# Altium integrated library TI Data Converters Digital to Analog Converter.IntLib: 1533 symbols (part 80 of 99)
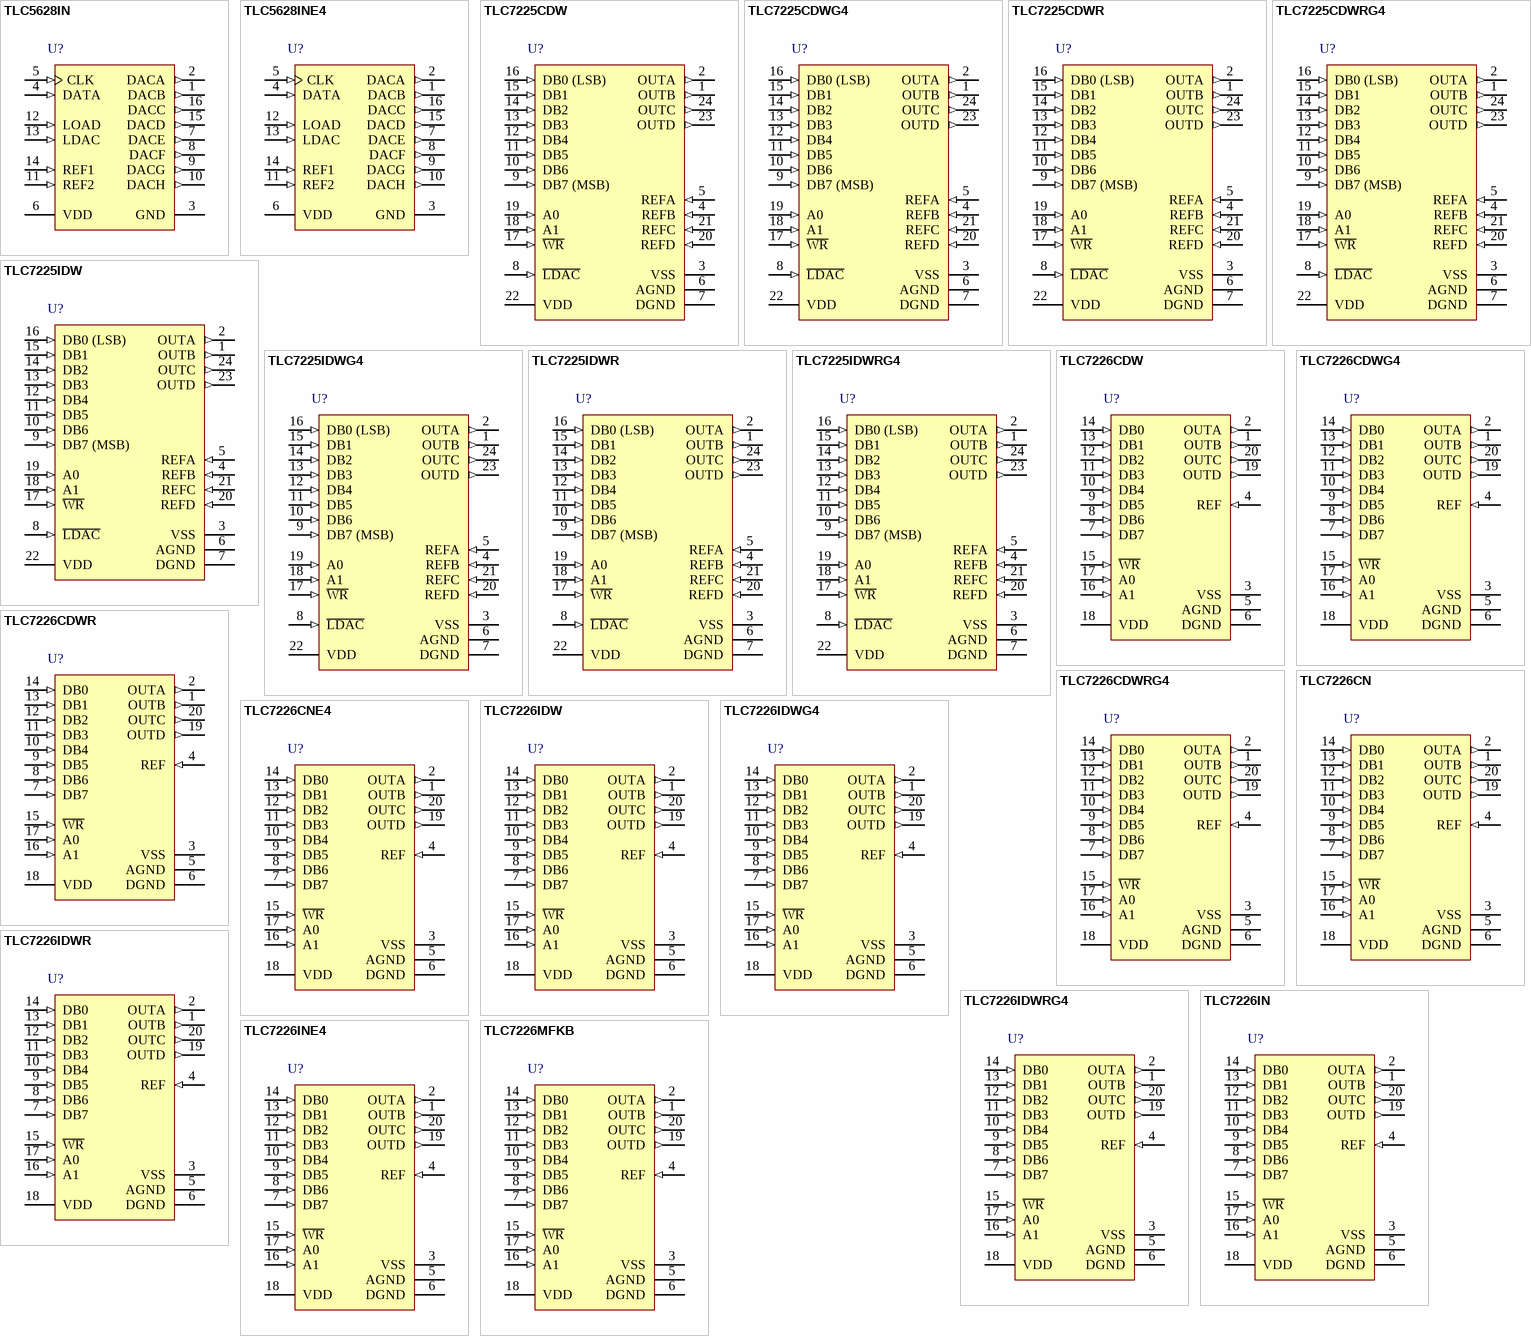
[diagram p152: symbols TLC5628IN to TLC7226MFKB]

## TLC7225IDW
designator U?
8-Bit, 5 us Quad DAC, Parallel Input, Simultaneous Update, Binary Input Coding, -25 to 85 degC, 24-pin SOIC (DW24), Green (RoHS & no Sb/Br); Manufacturer: Texas Instruments; PartNumber: TLC7225IDW; DAC Channels: 4; DNL(Max)(+/-LSB): 1; Power Consumption(Typ)(mW): 75; Resolution(Bits): 8; Settling Time(us): 5; SubFamily: Precision DAC (=<10MSPS); DatasheetVersion: SLAS109B; PackageVersion: 4040000-5/G, 01/2011; PackageReference: DW24; PackageDescription: 24-Pin Plastic Small Outline, Body 15.4 x 7.5 mm, Pitch 1.27 mm; Supplier 1: Digi-Key; Supplier Part Number 1: 296-3016-5-ND; Supplier 2: Mouser; Supplier Part Number 2: 595-TLC7225IDW; Eco-Plan: Green (RoHS & no Sb/Br); INL(Max)(+/-LSB): 1; Interface: Parallel; Mounting Technology: Surface Mount; Code_JEDEC: MS-013; ComponentLink1Description: Manufacturer URL; ComponentLink1URL: http://www.ti.com/; ComponentLink2Description: Datasheet; ComponentLink2URL: http://www.ti.com/general/docs/lit/getliterature.tsp?genericPartNumber=TLC7225&fileType=pdf; ComponentLink3Description: Package Specification; ComponentLink3URL: http://www.ti.com/litv/pdf/mpds174a
footprint TI-DW24_N (SOIC, 24-Leads, Body 15.4x7.5mm, Pitch 1.27mm, IPC Medium Density)
footprint TI-DW24_L (SOIC, 24-Leads, Body 15.4x7.5mm, Pitch 1.27mm, IPC High Density)
footprint TI-DW24_M (SOIC, 24-Leads, Body 15.4x7.5mm, Pitch 1.27mm, IPC Low Density)
pins: 1 OUTB (out) "DACB output", 2 OUTA (out) "DACA output", 3 VSS (power) "Negative supply voltage", 4 REFB (in) "Voltage reference input to DACB", 5 REFA (in) "Voltage reference input to DACA", 6 AGND (power) "Analog ground", 7 DGND (power) "Digital ground", 8 ~{LDAC} (in) "Load DAC. A high level simultaneously loads all four DAC registers. DAC registers are transparent when L\D\A\C\ is low", 9 DB7 (MSB) (in) "Digital DAC data input", 10 DB6 (in) "Digital DAC data input", 11 DB5 (in) "Digital DAC data input", 12 DB4 (in) "Digital DAC data input", 13 DB3 (in) "Digital DAC data input", 14 DB2 (in) "Digital DAC data input", 15 DB1 (in) "Digital DAC data input", 16 DB0 (LSB) (in) "Digital DAC data input", 17 ~{WR} (in) "Write input selects DAC transparency or latch mode", 18 A1 (in) "DAC select inputs", 19 A0 (in) "DAC select inputs", 20 REFD (in) "Voltage reference input to DACD", 21 REFC (in) "Voltage reference input to DACC", 22 VDD (power) "Positive supply voltage", 23 OUTD (out) "DACD output", 24 OUTC (out) "DACC output"

## TLC7225IDWG4
designator U?
8-Bit, 5 us Quad DAC, Parallel Input, Simultaneous Update, Binary Input Coding, -25 to 85 degC, 24-pin SOIC (DW24), Green (RoHS & no Sb/Br); Manufacturer: Texas Instruments; PartNumber: TLC7225IDWG4; DAC Channels: 4; DNL(Max)(+/-LSB): 1; Power Consumption(Typ)(mW): 75; Resolution(Bits): 8; Settling Time(us): 5; SubFamily: Precision DAC (=<10MSPS); DatasheetVersion: SLAS109B; PackageVersion: 4040000-5/G, 01/2011; PackageReference: DW24; PackageDescription: 24-Pin Plastic Small Outline, Body 15.4 x 7.5 mm, Pitch 1.27 mm; Supplier 1: Digi-Key; Supplier Part Number 1: TLC7225IDWG4-ND; Supplier 2: Mouser; Supplier Part Number 2: 595-TLC7225IDWG4; Eco-Plan: Green (RoHS & no Sb/Br); INL(Max)(+/-LSB): 1; Interface: Parallel; Mounting Technology: Surface Mount; Code_JEDEC: MS-013; ComponentLink1Description: Manufacturer URL; ComponentLink1URL: http://www.ti.com/; ComponentLink2Description: Datasheet; ComponentLink2URL: http://www.ti.com/general/docs/lit/getliterature.tsp?genericPartNumber=TLC7225&fileType=pdf; ComponentLink3Description: Package Specification; ComponentLink3URL: http://www.ti.com/litv/pdf/mpds174a
footprint TI-DW24_N (SOIC, 24-Leads, Body 15.4x7.5mm, Pitch 1.27mm, IPC Medium Density)
footprint TI-DW24_L (SOIC, 24-Leads, Body 15.4x7.5mm, Pitch 1.27mm, IPC High Density)
footprint TI-DW24_M (SOIC, 24-Leads, Body 15.4x7.5mm, Pitch 1.27mm, IPC Low Density)
pins: 1 OUTB (out) "DACB output", 2 OUTA (out) "DACA output", 3 VSS (power) "Negative supply voltage", 4 REFB (in) "Voltage reference input to DACB", 5 REFA (in) "Voltage reference input to DACA", 6 AGND (power) "Analog ground", 7 DGND (power) "Digital ground", 8 ~{LDAC} (in) "Load DAC. A high level simultaneously loads all four DAC registers. DAC registers are transparent when L\D\A\C\ is low", 9 DB7 (MSB) (in) "Digital DAC data input", 10 DB6 (in) "Digital DAC data input", 11 DB5 (in) "Digital DAC data input", 12 DB4 (in) "Digital DAC data input", 13 DB3 (in) "Digital DAC data input", 14 DB2 (in) "Digital DAC data input", 15 DB1 (in) "Digital DAC data input", 16 DB0 (LSB) (in) "Digital DAC data input", 17 ~{WR} (in) "Write input selects DAC transparency or latch mode", 18 A1 (in) "DAC select inputs", 19 A0 (in) "DAC select inputs", 20 REFD (in) "Voltage reference input to DACD", 21 REFC (in) "Voltage reference input to DACC", 22 VDD (power) "Positive supply voltage", 23 OUTD (out) "DACD output", 24 OUTC (out) "DACC output"

## TLC7225IDWR
designator U?
8-Bit, 5 us Quad DAC, Parallel Input, Simultaneous Update, Binary Input Coding, -25 to 85 degC, 24-pin SOIC (DW24), Green (RoHS & no Sb/Br); Manufacturer: Texas Instruments; PartNumber: TLC7225IDWR; DAC Channels: 4; DNL(Max)(+/-LSB): 1; Power Consumption(Typ)(mW): 75; Resolution(Bits): 8; Settling Time(us): 5; SubFamily: Precision DAC (=<10MSPS); DatasheetVersion: SLAS109B; PackageVersion: 4040000-5/G, 01/2011; PackageReference: DW24; PackageDescription: 24-Pin Plastic Small Outline, Body 15.4 x 7.5 mm, Pitch 1.27 mm; Supplier 1: Digi-Key; Supplier Part Number 1: TLC7225IDWR-ND; Supplier 2: Mouser; Supplier Part Number 2: 595-TLC7225IDWR; Eco-Plan: Green (RoHS & no Sb/Br); INL(Max)(+/-LSB): 1; Interface: Parallel; Mounting Technology: Surface Mount; Code_JEDEC: MS-013; ComponentLink1Description: Manufacturer URL; ComponentLink1URL: http://www.ti.com/; ComponentLink2Description: Datasheet; ComponentLink2URL: http://www.ti.com/general/docs/lit/getliterature.tsp?genericPartNumber=TLC7225&fileType=pdf; ComponentLink3Description: Package Specification; ComponentLink3URL: http://www.ti.com/litv/pdf/mpds174a
footprint TI-DW24_N (SOIC, 24-Leads, Body 15.4x7.5mm, Pitch 1.27mm, IPC Medium Density)
footprint TI-DW24_L (SOIC, 24-Leads, Body 15.4x7.5mm, Pitch 1.27mm, IPC High Density)
footprint TI-DW24_M (SOIC, 24-Leads, Body 15.4x7.5mm, Pitch 1.27mm, IPC Low Density)
pins: 1 OUTB (out) "DACB output", 2 OUTA (out) "DACA output", 3 VSS (power) "Negative supply voltage", 4 REFB (in) "Voltage reference input to DACB", 5 REFA (in) "Voltage reference input to DACA", 6 AGND (power) "Analog ground", 7 DGND (power) "Digital ground", 8 ~{LDAC} (in) "Load DAC. A high level simultaneously loads all four DAC registers. DAC registers are transparent when L\D\A\C\ is low", 9 DB7 (MSB) (in) "Digital DAC data input", 10 DB6 (in) "Digital DAC data input", 11 DB5 (in) "Digital DAC data input", 12 DB4 (in) "Digital DAC data input", 13 DB3 (in) "Digital DAC data input", 14 DB2 (in) "Digital DAC data input", 15 DB1 (in) "Digital DAC data input", 16 DB0 (LSB) (in) "Digital DAC data input", 17 ~{WR} (in) "Write input selects DAC transparency or latch mode", 18 A1 (in) "DAC select inputs", 19 A0 (in) "DAC select inputs", 20 REFD (in) "Voltage reference input to DACD", 21 REFC (in) "Voltage reference input to DACC", 22 VDD (power) "Positive supply voltage", 23 OUTD (out) "DACD output", 24 OUTC (out) "DACC output"

## TLC7225IDWRG4
designator U?
8-Bit, 5 us Quad DAC, Parallel Input, Simultaneous Update, Binary Input Coding, -25 to 85 degC, 24-pin SOIC (DW24), Green (RoHS & no Sb/Br); Manufacturer: Texas Instruments; PartNumber: TLC7225IDWRG4; DAC Channels: 4; DNL(Max)(+/-LSB): 1; Power Consumption(Typ)(mW): 75; Resolution(Bits): 8; Settling Time(us): 5; SubFamily: Precision DAC (=<10MSPS); DatasheetVersion: SLAS109B; PackageVersion: 4040000-5/G, 01/2011; PackageReference: DW24; PackageDescription: 24-Pin Plastic Small Outline, Body 15.4 x 7.5 mm, Pitch 1.27 mm; Supplier 1: Digi-Key; Supplier Part Number 1: TLC7225IDWRG4-ND; Supplier 2: Mouser; Supplier Part Number 2: 595-TLC7225IDWRG4; Eco-Plan: Green (RoHS & no Sb/Br); INL(Max)(+/-LSB): 1; Interface: Parallel; Mounting Technology: Surface Mount; Code_JEDEC: MS-013; ComponentLink1Description: Manufacturer URL; ComponentLink1URL: http://www.ti.com/; ComponentLink2Description: Datasheet; ComponentLink2URL: http://www.ti.com/general/docs/lit/getliterature.tsp?genericPartNumber=TLC7225&fileType=pdf; ComponentLink3Description: Package Specification; ComponentLink3URL: http://www.ti.com/litv/pdf/mpds174a
footprint TI-DW24_N (SOIC, 24-Leads, Body 15.4x7.5mm, Pitch 1.27mm, IPC Medium Density)
footprint TI-DW24_L (SOIC, 24-Leads, Body 15.4x7.5mm, Pitch 1.27mm, IPC High Density)
footprint TI-DW24_M (SOIC, 24-Leads, Body 15.4x7.5mm, Pitch 1.27mm, IPC Low Density)
pins: 1 OUTB (out) "DACB output", 2 OUTA (out) "DACA output", 3 VSS (power) "Negative supply voltage", 4 REFB (in) "Voltage reference input to DACB", 5 REFA (in) "Voltage reference input to DACA", 6 AGND (power) "Analog ground", 7 DGND (power) "Digital ground", 8 ~{LDAC} (in) "Load DAC. A high level simultaneously loads all four DAC registers. DAC registers are transparent when L\D\A\C\ is low", 9 DB7 (MSB) (in) "Digital DAC data input", 10 DB6 (in) "Digital DAC data input", 11 DB5 (in) "Digital DAC data input", 12 DB4 (in) "Digital DAC data input", 13 DB3 (in) "Digital DAC data input", 14 DB2 (in) "Digital DAC data input", 15 DB1 (in) "Digital DAC data input", 16 DB0 (LSB) (in) "Digital DAC data input", 17 ~{WR} (in) "Write input selects DAC transparency or latch mode", 18 A1 (in) "DAC select inputs", 19 A0 (in) "DAC select inputs", 20 REFD (in) "Voltage reference input to DACD", 21 REFC (in) "Voltage reference input to DACC", 22 VDD (power) "Positive supply voltage", 23 OUTD (out) "DACD output", 24 OUTC (out) "DACC output"

## TLC7226CDW
designator U?
8-Bit, 5 us Quad DAC, Parallel Input, Single / Dual Supply, 0 to 70 degC, 20-pin SOIC (DW20), Green (RoHS & no Sb/Br); Manufacturer: Texas Instruments; PartNumber: TLC7226CDW; DAC Channels: 4; DNL(Max)(+/-LSB): 1; Power Consumption(Typ)(mW): 90; Resolution(Bits): 8; Settling Time(us): 5; SubFamily: Precision DAC (=<10MSPS); DatasheetVersion: SLAS060F; PackageVersion: 4040000-4/G, 01/2011; PackageReference: DW20; PackageDescription: 20-Pin Plastic Small Outline, Body 12.8 x 7.5 mm, Pitch 1.27 mm; Supplier 1: Digi-Key; Supplier Part Number 1: 296-3017-5-ND; Supplier 2: Farnell; Supplier Part Number 2: 9854061; Supplier 3: Newark; Supplier Part Number 3: 35K1223; Supplier 4: Mouser; Supplier Part Number 4: 595-TLC7226CDW; Eco-Plan: Green (RoHS & no Sb/Br); INL(Max)(+/-LSB): 1; Interface: Parallel; Mounting Technology: Surface Mount; Code_JEDEC: MO-013; ComponentLink1Description: Manufacturer URL; ComponentLink1URL: http://www.ti.com/; ComponentLink2Description: Datasheet; ComponentLink2URL: http://www.ti.com/general/docs/lit/getliterature.tsp?genericPartNumber=TLC7226&fileType=pdf; ComponentLink3Description: Package Specification; ComponentLink3URL: http://www.ti.com/lit/ml/mpds173a/mpds173a.pdf
footprint TI-DW20_N (SOIC, 20-Leads, Body 12.8x7.5mm, Pitch 1.27mm, IPC Medium Density)
footprint TI-DW20_L (SOIC, 20-Leads, Body 12.8x7.5mm, Pitch 1.27mm, IPC High Density)
footprint TI-DW20_M (SOIC, 20-Leads, Body 12.8x7.5mm, Pitch 1.27mm, IPC Low Density)
pins: 1 OUTB (out) "DACB output. OUTB is the analog output of DACB.", 2 OUTA (out) "DACA output. OUTA is the analog output of DACA.", 3 VSS (power) "Negative supply voltage input terminal", 4 REF (in) "Voltage reference input. The voltage level on REF determines the full scale analog output.", 5 AGND (power) "Analog ground. AGND is the reference and return terminal for the analog signals and supply.", 6 DGND (power) "Digital ground. DGND is the reference and return terminal for the digital signals and supply.", 7 DB7 (in) "Digital DAC data inputs. DB0-DB7 are the input digital data used for conversion.", 8 DB6 (in) "Digital DAC data inputs. DB0-DB7 are the input digital data used for conversion.", 9 DB5 (in) "Digital DAC data inputs. DB0-DB7 are the input digital data used for conversion.", 10 DB4 (in) "Digital DAC data inputs. DB0-DB7 are the input digital data used for conversion.", 11 DB3 (in) "Digital DAC data inputs. DB0-DB7 are the input digital data used for conversion.", 12 DB2 (in) "Digital DAC data inputs. DB0-DB7 are the input digital data used for conversion.", 13 DB1 (in) "Digital DAC data inputs. DB0-DB7 are the input digital data used for conversion.", 14 DB0 (in) "Digital DAC data inputs. DB0-DB7 are the input digital data used for conversion.", 15 ~{WR} (in) "Write input. W\R\ selects DAC transparency or latch mode. The selected input latch is transparent when W\R\ is low.", 16 A1 (in) "DAC select inputs. The combination of high or low levels select either DACA, DACB, DACC, or DACD.", 17 A0 (in) "DAC select inputs. The combination of high or low levels select either DACA, DACB, DACC, or DACD.", 18 VDD (power) "Positive supply voltage input terminal", 19 OUTD (out) "DACD output. OUTD is the analog output of DACD.", 20 OUTC (out) "DACC output. OUTC is the analog output of DACC."

## TLC7226CDWG4
designator U?
8-Bit, 5 us Quad DAC, Parallel Input, Single / Dual Supply, 0 to 70 degC, 20-pin SOIC (DW20), Green (RoHS & no Sb/Br); Manufacturer: Texas Instruments; PartNumber: TLC7226CDWG4; DAC Channels: 4; DNL(Max)(+/-LSB): 1; Power Consumption(Typ)(mW): 90; Resolution(Bits): 8; Settling Time(us): 5; SubFamily: Precision DAC (=<10MSPS); DatasheetVersion: SLAS060F; PackageVersion: 4040000-4/G, 01/2011; PackageReference: DW20; PackageDescription: 20-Pin Plastic Small Outline, Body 12.8 x 7.5 mm, Pitch 1.27 mm; Supplier 1: Digi-Key; Supplier Part Number 1: TLC7226CDWG4-ND; Supplier 2: Mouser; Supplier Part Number 2: 595-TLC7226CDWG4; Eco-Plan: Green (RoHS & no Sb/Br); INL(Max)(+/-LSB): 1; Interface: Parallel; Mounting Technology: Surface Mount; Code_JEDEC: MO-013; ComponentLink1Description: Manufacturer URL; ComponentLink1URL: http://www.ti.com/; ComponentLink2Description: Datasheet; ComponentLink2URL: http://www.ti.com/general/docs/lit/getliterature.tsp?genericPartNumber=TLC7226&fileType=pdf; ComponentLink3Description: Package Specification; ComponentLink3URL: http://www.ti.com/lit/ml/mpds173a/mpds173a.pdf
footprint TI-DW20_N (SOIC, 20-Leads, Body 12.8x7.5mm, Pitch 1.27mm, IPC Medium Density)
footprint TI-DW20_L (SOIC, 20-Leads, Body 12.8x7.5mm, Pitch 1.27mm, IPC High Density)
footprint TI-DW20_M (SOIC, 20-Leads, Body 12.8x7.5mm, Pitch 1.27mm, IPC Low Density)
pins: 1 OUTB (out) "DACB output. OUTB is the analog output of DACB.", 2 OUTA (out) "DACA output. OUTA is the analog output of DACA.", 3 VSS (power) "Negative supply voltage input terminal", 4 REF (in) "Voltage reference input. The voltage level on REF determines the full scale analog output.", 5 AGND (power) "Analog ground. AGND is the reference and return terminal for the analog signals and supply.", 6 DGND (power) "Digital ground. DGND is the reference and return terminal for the digital signals and supply.", 7 DB7 (in) "Digital DAC data inputs. DB0-DB7 are the input digital data used for conversion.", 8 DB6 (in) "Digital DAC data inputs. DB0-DB7 are the input digital data used for conversion.", 9 DB5 (in) "Digital DAC data inputs. DB0-DB7 are the input digital data used for conversion.", 10 DB4 (in) "Digital DAC data inputs. DB0-DB7 are the input digital data used for conversion.", 11 DB3 (in) "Digital DAC data inputs. DB0-DB7 are the input digital data used for conversion.", 12 DB2 (in) "Digital DAC data inputs. DB0-DB7 are the input digital data used for conversion.", 13 DB1 (in) "Digital DAC data inputs. DB0-DB7 are the input digital data used for conversion.", 14 DB0 (in) "Digital DAC data inputs. DB0-DB7 are the input digital data used for conversion.", 15 ~{WR} (in) "Write input. W\R\ selects DAC transparency or latch mode. The selected input latch is transparent when W\R\ is low.", 16 A1 (in) "DAC select inputs. The combination of high or low levels select either DACA, DACB, DACC, or DACD.", 17 A0 (in) "DAC select inputs. The combination of high or low levels select either DACA, DACB, DACC, or DACD.", 18 VDD (power) "Positive supply voltage input terminal", 19 OUTD (out) "DACD output. OUTD is the analog output of DACD.", 20 OUTC (out) "DACC output. OUTC is the analog output of DACC."

## TLC7226CDWR
designator U?
8-Bit, 5 us Quad DAC, Parallel Input, Single / Dual Supply, 0 to 70 degC, 20-pin SOIC (DW20), Green (RoHS & no Sb/Br); Manufacturer: Texas Instruments; PartNumber: TLC7226CDWR; DAC Channels: 4; DNL(Max)(+/-LSB): 1; Power Consumption(Typ)(mW): 90; Resolution(Bits): 8; Settling Time(us): 5; SubFamily: Precision DAC (=<10MSPS); DatasheetVersion: SLAS060F; PackageVersion: 4040000-4/G, 01/2011; PackageReference: DW20; PackageDescription: 20-Pin Plastic Small Outline, Body 12.8 x 7.5 mm, Pitch 1.27 mm; Supplier 1: Digi-Key; Supplier Part Number 1: 296-26762-2-ND; Supplier 2: Digi-Key; Supplier Part Number 2: 296-26762-1-ND; Supplier 3: Digi-Key; Supplier Part Number 3: 296-26762-6-ND; Supplier 4: Newark; Supplier Part Number 4: 76C7489; Supplier 5: Mouser; Supplier Part Number 5: 595-TLC7226CDWR; Eco-Plan: Green (RoHS & no Sb/Br); INL(Max)(+/-LSB): 1; Interface: Parallel; Mounting Technology: Surface Mount; Code_JEDEC: MO-013; ComponentLink1Description: Manufacturer URL; ComponentLink1URL: http://www.ti.com/; ComponentLink2Description: Datasheet; ComponentLink2URL: http://www.ti.com/general/docs/lit/getliterature.tsp?genericPartNumber=TLC7226&fileType=pdf; ComponentLink3Description: Package Specification; ComponentLink3URL: http://www.ti.com/lit/ml/mpds173a/mpds173a.pdf
footprint TI-DW20_N (SOIC, 20-Leads, Body 12.8x7.5mm, Pitch 1.27mm, IPC Medium Density)
footprint TI-DW20_L (SOIC, 20-Leads, Body 12.8x7.5mm, Pitch 1.27mm, IPC High Density)
footprint TI-DW20_M (SOIC, 20-Leads, Body 12.8x7.5mm, Pitch 1.27mm, IPC Low Density)
pins: 1 OUTB (out) "DACB output. OUTB is the analog output of DACB.", 2 OUTA (out) "DACA output. OUTA is the analog output of DACA.", 3 VSS (power) "Negative supply voltage input terminal", 4 REF (in) "Voltage reference input. The voltage level on REF determines the full scale analog output.", 5 AGND (power) "Analog ground. AGND is the reference and return terminal for the analog signals and supply.", 6 DGND (power) "Digital ground. DGND is the reference and return terminal for the digital signals and supply.", 7 DB7 (in) "Digital DAC data inputs. DB0-DB7 are the input digital data used for conversion.", 8 DB6 (in) "Digital DAC data inputs. DB0-DB7 are the input digital data used for conversion.", 9 DB5 (in) "Digital DAC data inputs. DB0-DB7 are the input digital data used for conversion.", 10 DB4 (in) "Digital DAC data inputs. DB0-DB7 are the input digital data used for conversion.", 11 DB3 (in) "Digital DAC data inputs. DB0-DB7 are the input digital data used for conversion.", 12 DB2 (in) "Digital DAC data inputs. DB0-DB7 are the input digital data used for conversion.", 13 DB1 (in) "Digital DAC data inputs. DB0-DB7 are the input digital data used for conversion.", 14 DB0 (in) "Digital DAC data inputs. DB0-DB7 are the input digital data used for conversion.", 15 ~{WR} (in) "Write input. W\R\ selects DAC transparency or latch mode. The selected input latch is transparent when W\R\ is low.", 16 A1 (in) "DAC select inputs. The combination of high or low levels select either DACA, DACB, DACC, or DACD.", 17 A0 (in) "DAC select inputs. The combination of high or low levels select either DACA, DACB, DACC, or DACD.", 18 VDD (power) "Positive supply voltage input terminal", 19 OUTD (out) "DACD output. OUTD is the analog output of DACD.", 20 OUTC (out) "DACC output. OUTC is the analog output of DACC."

## TLC7226CDWRG4
designator U?
8-Bit, 5 us Quad DAC, Parallel Input, Single / Dual Supply, 0 to 70 degC, 20-pin SOIC (DW20), Green (RoHS & no Sb/Br); Manufacturer: Texas Instruments; PartNumber: TLC7226CDWRG4; DAC Channels: 4; DNL(Max)(+/-LSB): 1; Power Consumption(Typ)(mW): 90; Resolution(Bits): 8; Settling Time(us): 5; SubFamily: Precision DAC (=<10MSPS); DatasheetVersion: SLAS060F; PackageVersion: 4040000-4/G, 01/2011; PackageReference: DW20; PackageDescription: 20-Pin Plastic Small Outline, Body 12.8 x 7.5 mm, Pitch 1.27 mm; Supplier 1: Digi-Key; Supplier Part Number 1: TLC7226CDWRG4-ND; Supplier 2: Newark; Supplier Part Number 2: 33K7162; Supplier 3: Mouser; Supplier Part Number 3: 595-TLC7226CDWRG4; Eco-Plan: Green (RoHS & no Sb/Br); INL(Max)(+/-LSB): 1; Interface: Parallel; Mounting Technology: Surface Mount; Code_JEDEC: MO-013; ComponentLink1Description: Manufacturer URL; ComponentLink1URL: http://www.ti.com/; ComponentLink2Description: Datasheet; ComponentLink2URL: http://www.ti.com/general/docs/lit/getliterature.tsp?genericPartNumber=TLC7226&fileType=pdf; ComponentLink3Description: Package Specification; ComponentLink3URL: http://www.ti.com/lit/ml/mpds173a/mpds173a.pdf
footprint TI-DW20_N (SOIC, 20-Leads, Body 12.8x7.5mm, Pitch 1.27mm, IPC Medium Density)
footprint TI-DW20_L (SOIC, 20-Leads, Body 12.8x7.5mm, Pitch 1.27mm, IPC High Density)
footprint TI-DW20_M (SOIC, 20-Leads, Body 12.8x7.5mm, Pitch 1.27mm, IPC Low Density)
pins: 1 OUTB (out) "DACB output. OUTB is the analog output of DACB.", 2 OUTA (out) "DACA output. OUTA is the analog output of DACA.", 3 VSS (power) "Negative supply voltage input terminal", 4 REF (in) "Voltage reference input. The voltage level on REF determines the full scale analog output.", 5 AGND (power) "Analog ground. AGND is the reference and return terminal for the analog signals and supply.", 6 DGND (power) "Digital ground. DGND is the reference and return terminal for the digital signals and supply.", 7 DB7 (in) "Digital DAC data inputs. DB0-DB7 are the input digital data used for conversion.", 8 DB6 (in) "Digital DAC data inputs. DB0-DB7 are the input digital data used for conversion.", 9 DB5 (in) "Digital DAC data inputs. DB0-DB7 are the input digital data used for conversion.", 10 DB4 (in) "Digital DAC data inputs. DB0-DB7 are the input digital data used for conversion.", 11 DB3 (in) "Digital DAC data inputs. DB0-DB7 are the input digital data used for conversion.", 12 DB2 (in) "Digital DAC data inputs. DB0-DB7 are the input digital data used for conversion.", 13 DB1 (in) "Digital DAC data inputs. DB0-DB7 are the input digital data used for conversion.", 14 DB0 (in) "Digital DAC data inputs. DB0-DB7 are the input digital data used for conversion.", 15 ~{WR} (in) "Write input. W\R\ selects DAC transparency or latch mode. The selected input latch is transparent when W\R\ is low.", 16 A1 (in) "DAC select inputs. The combination of high or low levels select either DACA, DACB, DACC, or DACD.", 17 A0 (in) "DAC select inputs. The combination of high or low levels select either DACA, DACB, DACC, or DACD.", 18 VDD (power) "Positive supply voltage input terminal", 19 OUTD (out) "DACD output. OUTD is the analog output of DACD.", 20 OUTC (out) "DACC output. OUTC is the analog output of DACC."

## TLC7226CN
designator U?
8-Bit, 5 us Quad DAC, Parallel Input, Single / Dual Supply, 0 to 70 degC, 20-pin DIP (N20), Pb-Free (RoHS); Manufacturer: Texas Instruments; PartNumber: TLC7226CN; DAC Channels: 4; DNL(Max)(+/-LSB): 1; Power Consumption(Typ)(mW): 90; Resolution(Bits): 8; Settling Time(us): 5; SubFamily: Precision DAC (=<10MSPS); DatasheetVersion: SLAS060F; PackageVersion: 4040049/E, 12/2002; PackageReference: N20; PackageDescription: 20-Pin Plastic In-Line, Body 25.40 x 6.35 mm, Pitch 2.54 mm; Supplier 1: Digi-Key; Supplier Part Number 1: 296-3018-5-ND; Supplier 2: Farnell; Supplier Part Number 2: 8454604; Supplier 3: Newark; Supplier Part Number 3: 36K3647; Supplier 4: Mouser; Supplier Part Number 4: 595-TLC7226CN; Eco-Plan: Pb-Free (RoHS); INL(Max)(+/-LSB): 1; Interface: Parallel; Mounting Technology: Through Hole; Code_JEDEC: MS-001; ComponentLink1Description: Manufacturer URL; ComponentLink1URL: http://www.ti.com/; ComponentLink2Description: Datasheet; ComponentLink2URL: http://www.ti.com/general/docs/lit/getliterature.tsp?genericPartNumber=TLC7226&fileType=pdf; ComponentLink3Description: Package Specification; ComponentLink3URL: http://www.ti.com/lit/ml/mpdi002c/mpdi002c.pdf
footprint TI-N20 (DIP, 20-Leads, Body 25.4x6.35 mm, Pitch 2.54 mm)
pins: 1 OUTB (out) "DACB output. OUTB is the analog output of DACB.", 2 OUTA (out) "DACA output. OUTA is the analog output of DACA.", 3 VSS (power) "Negative supply voltage input terminal", 4 REF (in) "Voltage reference input. The voltage level on REF determines the full scale analog output.", 5 AGND (power) "Analog ground. AGND is the reference and return terminal for the analog signals and supply.", 6 DGND (power) "Digital ground. DGND is the reference and return terminal for the digital signals and supply.", 7 DB7 (in) "Digital DAC data inputs. DB0-DB7 are the input digital data used for conversion.", 8 DB6 (in) "Digital DAC data inputs. DB0-DB7 are the input digital data used for conversion.", 9 DB5 (in) "Digital DAC data inputs. DB0-DB7 are the input digital data used for conversion.", 10 DB4 (in) "Digital DAC data inputs. DB0-DB7 are the input digital data used for conversion.", 11 DB3 (in) "Digital DAC data inputs. DB0-DB7 are the input digital data used for conversion.", 12 DB2 (in) "Digital DAC data inputs. DB0-DB7 are the input digital data used for conversion.", 13 DB1 (in) "Digital DAC data inputs. DB0-DB7 are the input digital data used for conversion.", 14 DB0 (in) "Digital DAC data inputs. DB0-DB7 are the input digital data used for conversion.", 15 ~{WR} (in) "Write input. W\R\ selects DAC transparency or latch mode. The selected input latch is transparent when W\R\ is low.", 16 A1 (in) "DAC select inputs. The combination of high or low levels select either DACA, DACB, DACC, or DACD.", 17 A0 (in) "DAC select inputs. The combination of high or low levels select either DACA, DACB, DACC, or DACD.", 18 VDD (power) "Positive supply voltage input terminal", 19 OUTD (out) "DACD output. OUTD is the analog output of DACD.", 20 OUTC (out) "DACC output. OUTC is the analog output of DACC."

## TLC7226CNE4
designator U?
8-Bit, 5 us Quad DAC, Parallel Input, Single / Dual Supply, 0 to 70 degC, 20-pin DIP (N20), Pb-Free (RoHS); Manufacturer: Texas Instruments; PartNumber: TLC7226CNE4; DAC Channels: 4; DNL(Max)(+/-LSB): 1; Power Consumption(Typ)(mW): 90; Resolution(Bits): 8; Settling Time(us): 5; SubFamily: Precision DAC (=<10MSPS); DatasheetVersion: SLAS060F; PackageVersion: 4040049/E, 12/2002; PackageReference: N20; PackageDescription: 20-Pin Plastic In-Line, Body 25.40 x 6.35 mm, Pitch 2.54 mm; Supplier 1: Digi-Key; Supplier Part Number 1: TLC7226CNE4-ND; Supplier 2: Newark; Supplier Part Number 2: 24K5346; Supplier 3: Mouser; Supplier Part Number 3: 595-TLC7226CNE4; Eco-Plan: Pb-Free (RoHS); INL(Max)(+/-LSB): 1; Interface: Parallel; Mounting Technology: Through Hole; Code_JEDEC: MS-001; ComponentLink1Description: Manufacturer URL; ComponentLink1URL: http://www.ti.com/; ComponentLink2Description: Datasheet; ComponentLink2URL: http://www.ti.com/general/docs/lit/getliterature.tsp?genericPartNumber=TLC7226&fileType=pdf; ComponentLink3Description: Package Specification; ComponentLink3URL: http://www.ti.com/lit/ml/mpdi002c/mpdi002c.pdf
footprint TI-N20 (DIP, 20-Leads, Body 25.4x6.35 mm, Pitch 2.54 mm)
pins: 1 OUTB (out) "DACB output. OUTB is the analog output of DACB.", 2 OUTA (out) "DACA output. OUTA is the analog output of DACA.", 3 VSS (power) "Negative supply voltage input terminal", 4 REF (in) "Voltage reference input. The voltage level on REF determines the full scale analog output.", 5 AGND (power) "Analog ground. AGND is the reference and return terminal for the analog signals and supply.", 6 DGND (power) "Digital ground. DGND is the reference and return terminal for the digital signals and supply.", 7 DB7 (in) "Digital DAC data inputs. DB0-DB7 are the input digital data used for conversion.", 8 DB6 (in) "Digital DAC data inputs. DB0-DB7 are the input digital data used for conversion.", 9 DB5 (in) "Digital DAC data inputs. DB0-DB7 are the input digital data used for conversion.", 10 DB4 (in) "Digital DAC data inputs. DB0-DB7 are the input digital data used for conversion.", 11 DB3 (in) "Digital DAC data inputs. DB0-DB7 are the input digital data used for conversion.", 12 DB2 (in) "Digital DAC data inputs. DB0-DB7 are the input digital data used for conversion.", 13 DB1 (in) "Digital DAC data inputs. DB0-DB7 are the input digital data used for conversion.", 14 DB0 (in) "Digital DAC data inputs. DB0-DB7 are the input digital data used for conversion.", 15 ~{WR} (in) "Write input. W\R\ selects DAC transparency or latch mode. The selected input latch is transparent when W\R\ is low.", 16 A1 (in) "DAC select inputs. The combination of high or low levels select either DACA, DACB, DACC, or DACD.", 17 A0 (in) "DAC select inputs. The combination of high or low levels select either DACA, DACB, DACC, or DACD.", 18 VDD (power) "Positive supply voltage input terminal", 19 OUTD (out) "DACD output. OUTD is the analog output of DACD.", 20 OUTC (out) "DACC output. OUTC is the analog output of DACC."

## TLC7226IDW
designator U?
8-Bit, 5 us Quad DAC, Parallel Input, Single / Dual Supply, -40 to 85 degC, 20-pin SOIC (DW20), Green (RoHS & no Sb/Br); Manufacturer: Texas Instruments; PartNumber: TLC7226IDW; DAC Channels: 4; DNL(Max)(+/-LSB): 1; Power Consumption(Typ)(mW): 90; Resolution(Bits): 8; Settling Time(us): 5; SubFamily: Precision DAC (=<10MSPS); DatasheetVersion: SLAS060F; PackageVersion: 4040000-4/G, 01/2011; PackageReference: DW20; PackageDescription: 20-Pin Plastic Small Outline, Body 12.8 x 7.5 mm, Pitch 1.27 mm; Supplier 1: Digi-Key; Supplier Part Number 1: 296-3019-5-ND; Supplier 2: Farnell; Supplier Part Number 2: 8454612; Supplier 3: Newark; Supplier Part Number 3: 76C7490; Supplier 4: Mouser; Supplier Part Number 4: 595-TLC7226IDW; Eco-Plan: Green (RoHS & no Sb/Br); INL(Max)(+/-LSB): 1; Interface: Parallel; Mounting Technology: Surface Mount; Code_JEDEC: MO-013; ComponentLink1Description: Manufacturer URL; ComponentLink1URL: http://www.ti.com/; ComponentLink2Description: Datasheet; ComponentLink2URL: http://www.ti.com/general/docs/lit/getliterature.tsp?genericPartNumber=TLC7226&fileType=pdf; ComponentLink3Description: Package Specification; ComponentLink3URL: http://www.ti.com/lit/ml/mpds173a/mpds173a.pdf
footprint TI-DW20_N (SOIC, 20-Leads, Body 12.8x7.5mm, Pitch 1.27mm, IPC Medium Density)
footprint TI-DW20_L (SOIC, 20-Leads, Body 12.8x7.5mm, Pitch 1.27mm, IPC High Density)
footprint TI-DW20_M (SOIC, 20-Leads, Body 12.8x7.5mm, Pitch 1.27mm, IPC Low Density)
pins: 1 OUTB (out) "DACB output. OUTB is the analog output of DACB.", 2 OUTA (out) "DACA output. OUTA is the analog output of DACA.", 3 VSS (power) "Negative supply voltage input terminal", 4 REF (in) "Voltage reference input. The voltage level on REF determines the full scale analog output.", 5 AGND (power) "Analog ground. AGND is the reference and return terminal for the analog signals and supply.", 6 DGND (power) "Digital ground. DGND is the reference and return terminal for the digital signals and supply.", 7 DB7 (in) "Digital DAC data inputs. DB0-DB7 are the input digital data used for conversion.", 8 DB6 (in) "Digital DAC data inputs. DB0-DB7 are the input digital data used for conversion.", 9 DB5 (in) "Digital DAC data inputs. DB0-DB7 are the input digital data used for conversion.", 10 DB4 (in) "Digital DAC data inputs. DB0-DB7 are the input digital data used for conversion.", 11 DB3 (in) "Digital DAC data inputs. DB0-DB7 are the input digital data used for conversion.", 12 DB2 (in) "Digital DAC data inputs. DB0-DB7 are the input digital data used for conversion.", 13 DB1 (in) "Digital DAC data inputs. DB0-DB7 are the input digital data used for conversion.", 14 DB0 (in) "Digital DAC data inputs. DB0-DB7 are the input digital data used for conversion.", 15 ~{WR} (in) "Write input. W\R\ selects DAC transparency or latch mode. The selected input latch is transparent when W\R\ is low.", 16 A1 (in) "DAC select inputs. The combination of high or low levels select either DACA, DACB, DACC, or DACD.", 17 A0 (in) "DAC select inputs. The combination of high or low levels select either DACA, DACB, DACC, or DACD.", 18 VDD (power) "Positive supply voltage input terminal", 19 OUTD (out) "DACD output. OUTD is the analog output of DACD.", 20 OUTC (out) "DACC output. OUTC is the analog output of DACC."

## TLC7226IDWG4
designator U?
8-Bit, 5 us Quad DAC, Parallel Input, Single / Dual Supply, -40 to 85 degC, 20-pin SOIC (DW20), Green (RoHS & no Sb/Br); Manufacturer: Texas Instruments; PartNumber: TLC7226IDWG4; DAC Channels: 4; DNL(Max)(+/-LSB): 1; Power Consumption(Typ)(mW): 90; Resolution(Bits): 8; Settling Time(us): 5; SubFamily: Precision DAC (=<10MSPS); DatasheetVersion: SLAS060F; PackageVersion: 4040000-4/G, 01/2011; PackageReference: DW20; PackageDescription: 20-Pin Plastic Small Outline, Body 12.8 x 7.5 mm, Pitch 1.27 mm; Supplier 1: Digi-Key; Supplier Part Number 1: TLC7226IDWG4-ND; Supplier 2: Mouser; Supplier Part Number 2: 595-TLC7226IDWG4; Eco-Plan: Green (RoHS & no Sb/Br); INL(Max)(+/-LSB): 1; Interface: Parallel; Mounting Technology: Surface Mount; Code_JEDEC: MO-013; ComponentLink1Description: Manufacturer URL; ComponentLink1URL: http://www.ti.com/; ComponentLink2Description: Datasheet; ComponentLink2URL: http://www.ti.com/general/docs/lit/getliterature.tsp?genericPartNumber=TLC7226&fileType=pdf; ComponentLink3Description: Package Specification; ComponentLink3URL: http://www.ti.com/lit/ml/mpds173a/mpds173a.pdf
footprint TI-DW20_N (SOIC, 20-Leads, Body 12.8x7.5mm, Pitch 1.27mm, IPC Medium Density)
footprint TI-DW20_L (SOIC, 20-Leads, Body 12.8x7.5mm, Pitch 1.27mm, IPC High Density)
footprint TI-DW20_M (SOIC, 20-Leads, Body 12.8x7.5mm, Pitch 1.27mm, IPC Low Density)
pins: 1 OUTB (out) "DACB output. OUTB is the analog output of DACB.", 2 OUTA (out) "DACA output. OUTA is the analog output of DACA.", 3 VSS (power) "Negative supply voltage input terminal", 4 REF (in) "Voltage reference input. The voltage level on REF determines the full scale analog output.", 5 AGND (power) "Analog ground. AGND is the reference and return terminal for the analog signals and supply.", 6 DGND (power) "Digital ground. DGND is the reference and return terminal for the digital signals and supply.", 7 DB7 (in) "Digital DAC data inputs. DB0-DB7 are the input digital data used for conversion.", 8 DB6 (in) "Digital DAC data inputs. DB0-DB7 are the input digital data used for conversion.", 9 DB5 (in) "Digital DAC data inputs. DB0-DB7 are the input digital data used for conversion.", 10 DB4 (in) "Digital DAC data inputs. DB0-DB7 are the input digital data used for conversion.", 11 DB3 (in) "Digital DAC data inputs. DB0-DB7 are the input digital data used for conversion.", 12 DB2 (in) "Digital DAC data inputs. DB0-DB7 are the input digital data used for conversion.", 13 DB1 (in) "Digital DAC data inputs. DB0-DB7 are the input digital data used for conversion.", 14 DB0 (in) "Digital DAC data inputs. DB0-DB7 are the input digital data used for conversion.", 15 ~{WR} (in) "Write input. W\R\ selects DAC transparency or latch mode. The selected input latch is transparent when W\R\ is low.", 16 A1 (in) "DAC select inputs. The combination of high or low levels select either DACA, DACB, DACC, or DACD.", 17 A0 (in) "DAC select inputs. The combination of high or low levels select either DACA, DACB, DACC, or DACD.", 18 VDD (power) "Positive supply voltage input terminal", 19 OUTD (out) "DACD output. OUTD is the analog output of DACD.", 20 OUTC (out) "DACC output. OUTC is the analog output of DACC."

## TLC7226IDWR
designator U?
8-Bit, 5 us Quad DAC, Parallel Input, Single / Dual Supply, -40 to 85 degC, 20-pin SOIC (DW20), Green (RoHS & no Sb/Br); Manufacturer: Texas Instruments; PartNumber: TLC7226IDWR; DAC Channels: 4; DNL(Max)(+/-LSB): 1; Power Consumption(Typ)(mW): 90; Resolution(Bits): 8; Settling Time(us): 5; SubFamily: Precision DAC (=<10MSPS); DatasheetVersion: SLAS060F; PackageVersion: 4040000-4/G, 01/2011; PackageReference: DW20; PackageDescription: 20-Pin Plastic Small Outline, Body 12.8 x 7.5 mm, Pitch 1.27 mm; Supplier 1: Digi-Key; Supplier Part Number 1: TLC7226IDWR-ND; Supplier 2: Newark; Supplier Part Number 2: 76C7491; Supplier 3: Mouser; Supplier Part Number 3: 595-TLC7226IDWR; Eco-Plan: Green (RoHS & no Sb/Br); INL(Max)(+/-LSB): 1; Interface: Parallel; Mounting Technology: Surface Mount; Code_JEDEC: MO-013; ComponentLink1Description: Manufacturer URL; ComponentLink1URL: http://www.ti.com/; ComponentLink2Description: Datasheet; ComponentLink2URL: http://www.ti.com/general/docs/lit/getliterature.tsp?genericPartNumber=TLC7226&fileType=pdf; ComponentLink3Description: Package Specification; ComponentLink3URL: http://www.ti.com/lit/ml/mpds173a/mpds173a.pdf
footprint TI-DW20_N (SOIC, 20-Leads, Body 12.8x7.5mm, Pitch 1.27mm, IPC Medium Density)
footprint TI-DW20_L (SOIC, 20-Leads, Body 12.8x7.5mm, Pitch 1.27mm, IPC High Density)
footprint TI-DW20_M (SOIC, 20-Leads, Body 12.8x7.5mm, Pitch 1.27mm, IPC Low Density)
pins: 1 OUTB (out) "DACB output. OUTB is the analog output of DACB.", 2 OUTA (out) "DACA output. OUTA is the analog output of DACA.", 3 VSS (power) "Negative supply voltage input terminal", 4 REF (in) "Voltage reference input. The voltage level on REF determines the full scale analog output.", 5 AGND (power) "Analog ground. AGND is the reference and return terminal for the analog signals and supply.", 6 DGND (power) "Digital ground. DGND is the reference and return terminal for the digital signals and supply.", 7 DB7 (in) "Digital DAC data inputs. DB0-DB7 are the input digital data used for conversion.", 8 DB6 (in) "Digital DAC data inputs. DB0-DB7 are the input digital data used for conversion.", 9 DB5 (in) "Digital DAC data inputs. DB0-DB7 are the input digital data used for conversion.", 10 DB4 (in) "Digital DAC data inputs. DB0-DB7 are the input digital data used for conversion.", 11 DB3 (in) "Digital DAC data inputs. DB0-DB7 are the input digital data used for conversion.", 12 DB2 (in) "Digital DAC data inputs. DB0-DB7 are the input digital data used for conversion.", 13 DB1 (in) "Digital DAC data inputs. DB0-DB7 are the input digital data used for conversion.", 14 DB0 (in) "Digital DAC data inputs. DB0-DB7 are the input digital data used for conversion.", 15 ~{WR} (in) "Write input. W\R\ selects DAC transparency or latch mode. The selected input latch is transparent when W\R\ is low.", 16 A1 (in) "DAC select inputs. The combination of high or low levels select either DACA, DACB, DACC, or DACD.", 17 A0 (in) "DAC select inputs. The combination of high or low levels select either DACA, DACB, DACC, or DACD.", 18 VDD (power) "Positive supply voltage input terminal", 19 OUTD (out) "DACD output. OUTD is the analog output of DACD.", 20 OUTC (out) "DACC output. OUTC is the analog output of DACC."

## TLC7226IDWRG4
designator U?
8-Bit, 5 us Quad DAC, Parallel Input, Single / Dual Supply, -40 to 85 degC, 20-pin SOIC (DW20), Green (RoHS & no Sb/Br); Manufacturer: Texas Instruments; PartNumber: TLC7226IDWRG4; DAC Channels: 4; DNL(Max)(+/-LSB): 1; Power Consumption(Typ)(mW): 90; Resolution(Bits): 8; Settling Time(us): 5; SubFamily: Precision DAC (=<10MSPS); DatasheetVersion: SLAS060F; PackageVersion: 4040000-4/G, 01/2011; PackageReference: DW20; PackageDescription: 20-Pin Plastic Small Outline, Body 12.8 x 7.5 mm, Pitch 1.27 mm; Supplier 1: Digi-Key; Supplier Part Number 1: TLC7226IDWRG4-ND; Supplier 2: Newark; Supplier Part Number 2: 58K6748; Supplier 3: Mouser; Supplier Part Number 3: 595-TLC7226IDWRG4; Eco-Plan: Green (RoHS & no Sb/Br); INL(Max)(+/-LSB): 1; Interface: Parallel; Mounting Technology: Surface Mount; Code_JEDEC: MO-013; ComponentLink1Description: Manufacturer URL; ComponentLink1URL: http://www.ti.com/; ComponentLink2Description: Datasheet; ComponentLink2URL: http://www.ti.com/general/docs/lit/getliterature.tsp?genericPartNumber=TLC7226&fileType=pdf; ComponentLink3Description: Package Specification; ComponentLink3URL: http://www.ti.com/lit/ml/mpds173a/mpds173a.pdf
footprint TI-DW20_N (SOIC, 20-Leads, Body 12.8x7.5mm, Pitch 1.27mm, IPC Medium Density)
footprint TI-DW20_L (SOIC, 20-Leads, Body 12.8x7.5mm, Pitch 1.27mm, IPC High Density)
footprint TI-DW20_M (SOIC, 20-Leads, Body 12.8x7.5mm, Pitch 1.27mm, IPC Low Density)
pins: 1 OUTB (out) "DACB output. OUTB is the analog output of DACB.", 2 OUTA (out) "DACA output. OUTA is the analog output of DACA.", 3 VSS (power) "Negative supply voltage input terminal", 4 REF (in) "Voltage reference input. The voltage level on REF determines the full scale analog output.", 5 AGND (power) "Analog ground. AGND is the reference and return terminal for the analog signals and supply.", 6 DGND (power) "Digital ground. DGND is the reference and return terminal for the digital signals and supply.", 7 DB7 (in) "Digital DAC data inputs. DB0-DB7 are the input digital data used for conversion.", 8 DB6 (in) "Digital DAC data inputs. DB0-DB7 are the input digital data used for conversion.", 9 DB5 (in) "Digital DAC data inputs. DB0-DB7 are the input digital data used for conversion.", 10 DB4 (in) "Digital DAC data inputs. DB0-DB7 are the input digital data used for conversion.", 11 DB3 (in) "Digital DAC data inputs. DB0-DB7 are the input digital data used for conversion.", 12 DB2 (in) "Digital DAC data inputs. DB0-DB7 are the input digital data used for conversion.", 13 DB1 (in) "Digital DAC data inputs. DB0-DB7 are the input digital data used for conversion.", 14 DB0 (in) "Digital DAC data inputs. DB0-DB7 are the input digital data used for conversion.", 15 ~{WR} (in) "Write input. W\R\ selects DAC transparency or latch mode. The selected input latch is transparent when W\R\ is low.", 16 A1 (in) "DAC select inputs. The combination of high or low levels select either DACA, DACB, DACC, or DACD.", 17 A0 (in) "DAC select inputs. The combination of high or low levels select either DACA, DACB, DACC, or DACD.", 18 VDD (power) "Positive supply voltage input terminal", 19 OUTD (out) "DACD output. OUTD is the analog output of DACD.", 20 OUTC (out) "DACC output. OUTC is the analog output of DACC."

## TLC7226IN
designator U?
8-Bit, 5 us Quad DAC, Parallel Input, Single / Dual Supply, -40 to 85 degC, 20-pin DIP (N20), Pb-Free (RoHS); Manufacturer: Texas Instruments; PartNumber: TLC7226IN; DAC Channels: 4; DNL(Max)(+/-LSB): 1; Power Consumption(Typ)(mW): 90; Resolution(Bits): 8; Settling Time(us): 5; SubFamily: Precision DAC (=<10MSPS); DatasheetVersion: SLAS060F; PackageVersion: 4040049/E, 12/2002; PackageReference: N20; PackageDescription: 20-Pin Plastic In-Line, Body 25.40 x 6.35 mm, Pitch 2.54 mm; Supplier 1: Digi-Key; Supplier Part Number 1: 296-2296-5-ND; Supplier 2: Newark; Supplier Part Number 2: 76C7492; Supplier 3: Mouser; Supplier Part Number 3: 595-TLC7226IN; Eco-Plan: Pb-Free (RoHS); INL(Max)(+/-LSB): 1; Interface: Parallel; Mounting Technology: Through Hole; Code_JEDEC: MS-001; ComponentLink1Description: Manufacturer URL; ComponentLink1URL: http://www.ti.com/; ComponentLink2Description: Datasheet; ComponentLink2URL: http://www.ti.com/general/docs/lit/getliterature.tsp?genericPartNumber=TLC7226&fileType=pdf; ComponentLink3Description: Package Specification; ComponentLink3URL: http://www.ti.com/lit/ml/mpdi002c/mpdi002c.pdf
footprint TI-N20 (DIP, 20-Leads, Body 25.4x6.35 mm, Pitch 2.54 mm)
pins: 1 OUTB (out) "DACB output. OUTB is the analog output of DACB.", 2 OUTA (out) "DACA output. OUTA is the analog output of DACA.", 3 VSS (power) "Negative supply voltage input terminal", 4 REF (in) "Voltage reference input. The voltage level on REF determines the full scale analog output.", 5 AGND (power) "Analog ground. AGND is the reference and return terminal for the analog signals and supply.", 6 DGND (power) "Digital ground. DGND is the reference and return terminal for the digital signals and supply.", 7 DB7 (in) "Digital DAC data inputs. DB0-DB7 are the input digital data used for conversion.", 8 DB6 (in) "Digital DAC data inputs. DB0-DB7 are the input digital data used for conversion.", 9 DB5 (in) "Digital DAC data inputs. DB0-DB7 are the input digital data used for conversion.", 10 DB4 (in) "Digital DAC data inputs. DB0-DB7 are the input digital data used for conversion.", 11 DB3 (in) "Digital DAC data inputs. DB0-DB7 are the input digital data used for conversion.", 12 DB2 (in) "Digital DAC data inputs. DB0-DB7 are the input digital data used for conversion.", 13 DB1 (in) "Digital DAC data inputs. DB0-DB7 are the input digital data used for conversion.", 14 DB0 (in) "Digital DAC data inputs. DB0-DB7 are the input digital data used for conversion.", 15 ~{WR} (in) "Write input. W\R\ selects DAC transparency or latch mode. The selected input latch is transparent when W\R\ is low.", 16 A1 (in) "DAC select inputs. The combination of high or low levels select either DACA, DACB, DACC, or DACD.", 17 A0 (in) "DAC select inputs. The combination of high or low levels select either DACA, DACB, DACC, or DACD.", 18 VDD (power) "Positive supply voltage input terminal", 19 OUTD (out) "DACD output. OUTD is the analog output of DACD.", 20 OUTC (out) "DACC output. OUTC is the analog output of DACC."

## TLC7226INE4
designator U?
8-Bit, 5 us Quad DAC, Parallel Input, Single / Dual Supply, -40 to 85 degC, 20-pin DIP (N20), Pb-Free (RoHS); Manufacturer: Texas Instruments; PartNumber: TLC7226INE4; DAC Channels: 4; DNL(Max)(+/-LSB): 1; Power Consumption(Typ)(mW): 90; Resolution(Bits): 8; Settling Time(us): 5; SubFamily: Precision DAC (=<10MSPS); DatasheetVersion: SLAS060F; PackageVersion: 4040049/E, 12/2002; PackageReference: N20; PackageDescription: 20-Pin Plastic In-Line, Body 25.40 x 6.35 mm, Pitch 2.54 mm; Supplier 1: Digi-Key; Supplier Part Number 1: TLC7226INE4-ND; Supplier 2: Newark; Supplier Part Number 2: 24K5347; Supplier 3: Mouser; Supplier Part Number 3: 595-TLC7226INE4; Eco-Plan: Pb-Free (RoHS); INL(Max)(+/-LSB): 1; Interface: Parallel; Mounting Technology: Through Hole; Code_JEDEC: MS-001; ComponentLink1Description: Manufacturer URL; ComponentLink1URL: http://www.ti.com/; ComponentLink2Description: Datasheet; ComponentLink2URL: http://www.ti.com/general/docs/lit/getliterature.tsp?genericPartNumber=TLC7226&fileType=pdf; ComponentLink3Description: Package Specification; ComponentLink3URL: http://www.ti.com/lit/ml/mpdi002c/mpdi002c.pdf
footprint TI-N20 (DIP, 20-Leads, Body 25.4x6.35 mm, Pitch 2.54 mm)
pins: 1 OUTB (out) "DACB output. OUTB is the analog output of DACB.", 2 OUTA (out) "DACA output. OUTA is the analog output of DACA.", 3 VSS (power) "Negative supply voltage input terminal", 4 REF (in) "Voltage reference input. The voltage level on REF determines the full scale analog output.", 5 AGND (power) "Analog ground. AGND is the reference and return terminal for the analog signals and supply.", 6 DGND (power) "Digital ground. DGND is the reference and return terminal for the digital signals and supply.", 7 DB7 (in) "Digital DAC data inputs. DB0-DB7 are the input digital data used for conversion.", 8 DB6 (in) "Digital DAC data inputs. DB0-DB7 are the input digital data used for conversion.", 9 DB5 (in) "Digital DAC data inputs. DB0-DB7 are the input digital data used for conversion.", 10 DB4 (in) "Digital DAC data inputs. DB0-DB7 are the input digital data used for conversion.", 11 DB3 (in) "Digital DAC data inputs. DB0-DB7 are the input digital data used for conversion.", 12 DB2 (in) "Digital DAC data inputs. DB0-DB7 are the input digital data used for conversion.", 13 DB1 (in) "Digital DAC data inputs. DB0-DB7 are the input digital data used for conversion.", 14 DB0 (in) "Digital DAC data inputs. DB0-DB7 are the input digital data used for conversion.", 15 ~{WR} (in) "Write input. W\R\ selects DAC transparency or latch mode. The selected input latch is transparent when W\R\ is low.", 16 A1 (in) "DAC select inputs. The combination of high or low levels select either DACA, DACB, DACC, or DACD.", 17 A0 (in) "DAC select inputs. The combination of high or low levels select either DACA, DACB, DACC, or DACD.", 18 VDD (power) "Positive supply voltage input terminal", 19 OUTD (out) "DACD output. OUTD is the analog output of DACD.", 20 OUTC (out) "DACC output. OUTC is the analog output of DACC."